# Altium schematic symbol library BGA614.SchLib: 1 symbol
Pins are listed as number, name and electrical type; pins without a type are passive.

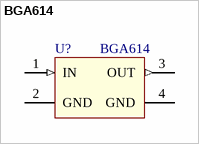
[diagram p0: symbol BGA614]

## BGA614
designator U?
Silicon Germanium Broadband MMIC Amplifier; Value: BGA614
footprint SOT-343 (Footprint not found)
pins: 1 IN (in) "FM RF inputs. FMI should be connected to the antenna trace.", 2 GND (power) "AM/SW/LW RF input.", 3 OUT (out), 4 GND (power)